# EAGLE library part TC7WBL3305CFK (library toshiba-custom)
IC USB SWITCH SPST DUAL US8
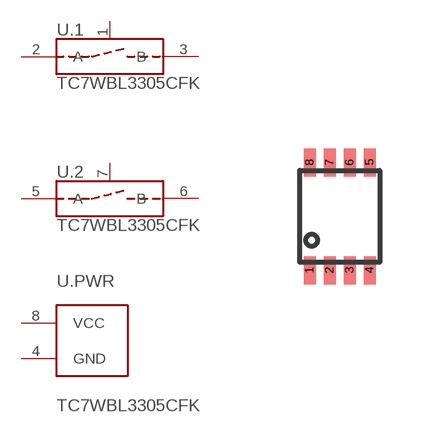
[diagram p0: symbol with the pads of SSOP8-P-0.50A; footprint SSOP8-P-0.50A]

Designator prefix U; gates .1=SWITCH-AH .2=SWITCH-AH .PWR=SWITCH-PWR

## TC7WBL3305CFK  [SSOP8-P-0.50A]
1  .1:OE  in
2  .1:A  pas
3  .1:B  pas
4  .PWR:GND  pwr
5  .2:A  pas
6  .2:B  pas
7  .2:OE  in
8  .PWR:VCC  pwr

## Footprint SSOP8-P-0.50A (pad centres in mm)
smd 0.3 x 0.7: 1 -0.75,-1.35; 2 -0.25,-1.35; 3 0.25,-1.35; 4 0.75,-1.35; 5 0.75,1.35; 6 0.25,1.35; 7 -0.25,1.35; 8 -0.75,1.35